# Altium schematic symbol library bazeSchLib.SchLib: 4 symbols
Pins are listed as number, name and electrical type; pins without a type are passive.

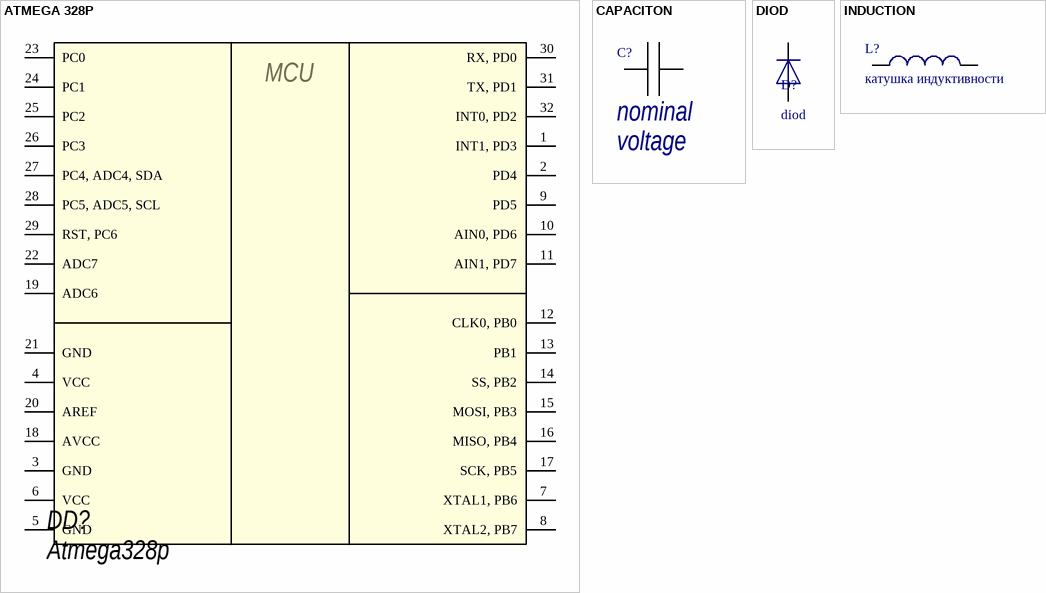
[diagram p0: symbols ATMEGA 328P to INDUCTION]

## ATMEGA 328P
designator DD?, comment Atmega328p
nam: Atmega328p
pins: 1 INT1, PD3, 2 PD4, 3 GND, 4 VCC, 5 GND, 6 VCC, 7 XTAL1, PB6, 8 XTAL2, PB7, 9 PD5, 10 AIN0, PD6, 11 AIN1, PD7, 12 CLK0, PB0, 13 PB1, 14 SS, PB2, 15 MOSI, PB3, 16 MISO, PB4, 17 SCK, PB5, 18 AVCC, 19 ADC6, 20 AREF, 21 GND, 22 ADC7, 23 PC0, 24 PC1, 25 PC2, 26 PC3, 27 PC4, ADC4, SDA, 28 PC5, ADC5, SCL, 29 RST, PC6, 30 RX, PD0, 31 TX, PD1, 32 INT0, PD2
text: MCU

## CAPACITON
designator C?, comment конденсатор  (value not drawn)
nam: конденсатор; voltage: voltage; nominal: nominal
footprint CAPATION 1210
pins: 1, 2

## DIOD
designator D?, comment diod
nam: diod
footprint DIOD323
pins: 1, 2

## INDUCTION
designator L?, comment катушка индуктивности
nam: катушка индуктивности
footprint I0805 (inductor)
footprint BLM18BD102SN1D
pins: 1, 2